# Altium schematic symbol library test_board.SchLib: 21 symbols
Pins are listed as number, name and electrical type; pins without a type are passive.

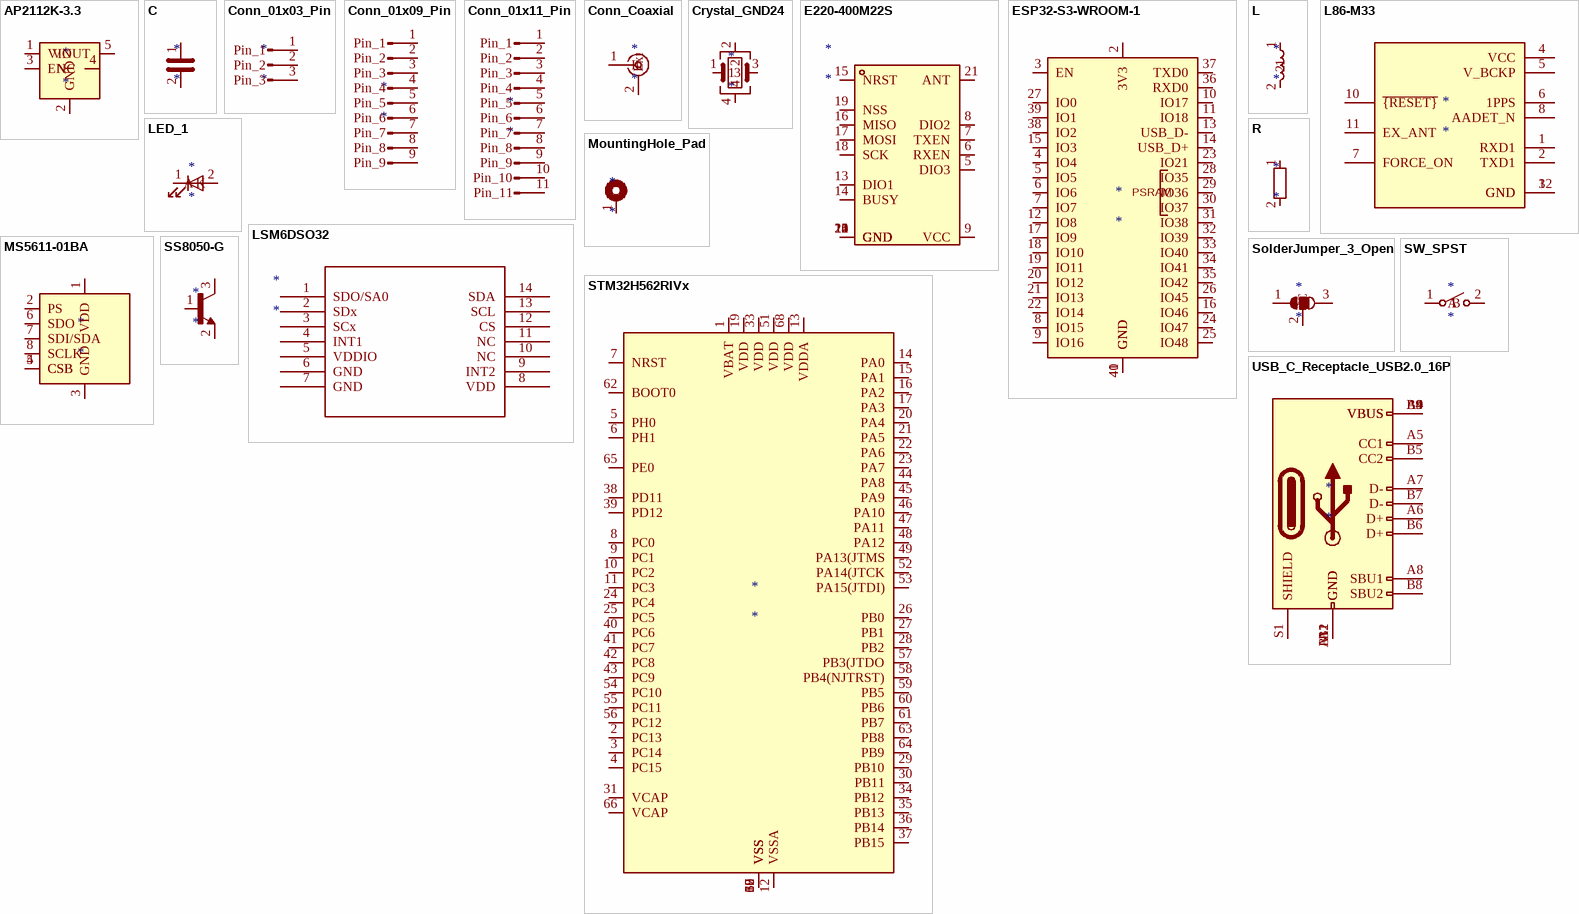
[diagram p0: symbols AP2112K-3.3 to USB_C_Receptacle_USB2.0_16P]

## AP2112K-3.3
designator *
pins: 1 VIN, 2 GND, 3 EN, 4 NC, 5 VOUT

## C
designator *
pins: 1, 2

## Conn_01x03_Pin
designator *
pins: 1 Pin_1, 2 Pin_2, 3 Pin_3

## Conn_01x09_Pin
designator *
pins: 1 Pin_1, 2 Pin_2, 3 Pin_3, 4 Pin_4, 5 Pin_5, 6 Pin_6, 7 Pin_7, 8 Pin_8, 9 Pin_9

## Conn_01x11_Pin
designator *
pins: 1 Pin_1, 2 Pin_2, 3 Pin_3, 4 Pin_4, 5 Pin_5, 6 Pin_6, 7 Pin_7, 8 Pin_8, 9 Pin_9, 10 Pin_10, 11 Pin_11

## Conn_Coaxial
designator *
pins: 1 In, 2 Ext

## Crystal_GND24
designator *
pins: 1, 2, 3, 4

## E220-400M22S
designator *
pins: 1 GND, 2 GND, 3 GND, 4 GND, 5 DIO3, 6 RXEN, 7 TXEN, 8 DIO2, 9 VCC, 10 GND, 11 GND, 12 GND, 13 DIO1, 14 BUSY, 15 NRST, 16 MISO, 17 MOSI, 18 SCK, 19 NSS, 20 GND, 21 ANT, 22 GND

## ESP32-S3-WROOM-1
designator *
pins: 1 GND, 2 3V3, 3 EN, 4 IO4, 5 IO5, 6 IO6, 7 IO7, 8 IO15, 9 IO16, 10 IO17, 11 IO18, 12 IO8, 13 USB_D-, 14 USB_D+, 15 IO3, 16 IO46, 17 IO9, 18 IO10, 19 IO11, 20 IO12, 21 IO13, 22 IO14, 23 IO21, 24 IO47, 25 IO48, 26 IO45, 27 IO0, 28 IO35, 29 IO36, 30 IO37, 31 IO38, 32 IO39, 33 IO40, 34 IO41, 35 IO42, 36 RXD0, 37 TXD0, 38 IO2, 39 IO1, 40 GND, 41 GND
text: PSRAM

## L
designator *
pins: 1, 2

## L86-M33
designator *
pins: 1 RXD1, 2 TXD1, 3 GND, 4 VCC, 5 V_BCKP, 6 1PPS, 7 FORCE_ON, 8 AADET_N, 10 ~{{RESET}}, 11 EX_ANT, 12 GND

## LED_1
designator *
pins: 1 K, 2 A

## LSM6DSO32
designator *
pins: 1 SDO/SA0, 2 SDx, 3 SCx, 4 INT1, 5 VDDIO, 6 GND, 7 GND, 8 VDD, 9 INT2, 10 NC, 11 NC, 12 CS, 13 SCL, 14 SDA

## MountingHole_Pad
designator *
pins: 1

## MS5611-01BA
designator *
pins: 1 VDD, 2 PS, 3 GND, 4 CSB, 5 CSB, 6 SDO, 7 SDI/SDA, 8 SCLK

## R
designator *
pins: 1, 2

## SolderJumper_3_Open
designator *
pins: 1 A, 2 C, 3 B

## SS8050-G
designator *
pins: 1, 2, 3

## STM32H562RIVx
designator *
pins: 1 VBAT, 2 PC13, 3 PC14, 4 PC15, 5 PH0, 6 PH1, 7 NRST, 8 PC0, 9 PC1, 10 PC2, 11 PC3, 12 VSSA, 13 VDDA, 14 PA0, 15 PA1, 16 PA2, 17 PA3, 18 VSS, 19 VDD, 20 PA4, 21 PA5, 22 PA6, 23 PA7, 24 PC4, 25 PC5, 26 PB0, 27 PB1, 28 PB2, 29 PB10, 30 PB11, 31 VCAP, 32 VSS, 33 VDD, 34 PB12, 35 PB13, 36 PB14, 37 PB15, 38 PD11, 39 PD12, 40 PC6, 41 PC7, 42 PC8, 43 PC9, 44 PA8, 45 PA9, 46 PA10, 47 PA11, 48 PA12, 49 PA13(JTMS, 50 VSS, 51 VDD, 52 PA14(JTCK, 53 PA15(JTDI), 54 PC10, 55 PC11, 56 PC12, 57 PB3(JTDO, 58 PB4(NJTRST), 59 PB5, 60 PB6, 61 PB7, 62 BOOT0, 63 PB8, 64 PB9, 65 PE0, 66 VCAP, 67 VSS, 68 VDD, 69 VSS

## SW_SPST
designator *
pins: 1 A, 2 B

## USB_C_Receptacle_USB2.0_16P
designator *
pins: A1 GND, A4 VBUS, A5 CC1, A6 D+, A7 D-, A8 SBU1, A9 VBUS, A12 GND, B1 GND, B4 VBUS, B5 CC2, B6 D+, B7 D-, B8 SBU2, B9 VBUS, B12 GND, S1 SHIELD